# Altium footprint library myPcbLib.PcbLib: 124 footprints (part 3 of 8)
Each footprint in its own frame and in the unit in brackets; x right, y up, seen from the top. Pads: shape width x height; smd on the part's side, far side on the other; paste and mask are expansions set on the pad; w line width, h text height; cw(c..) or ccw(c..) is an arc to the next point about the centre after c.
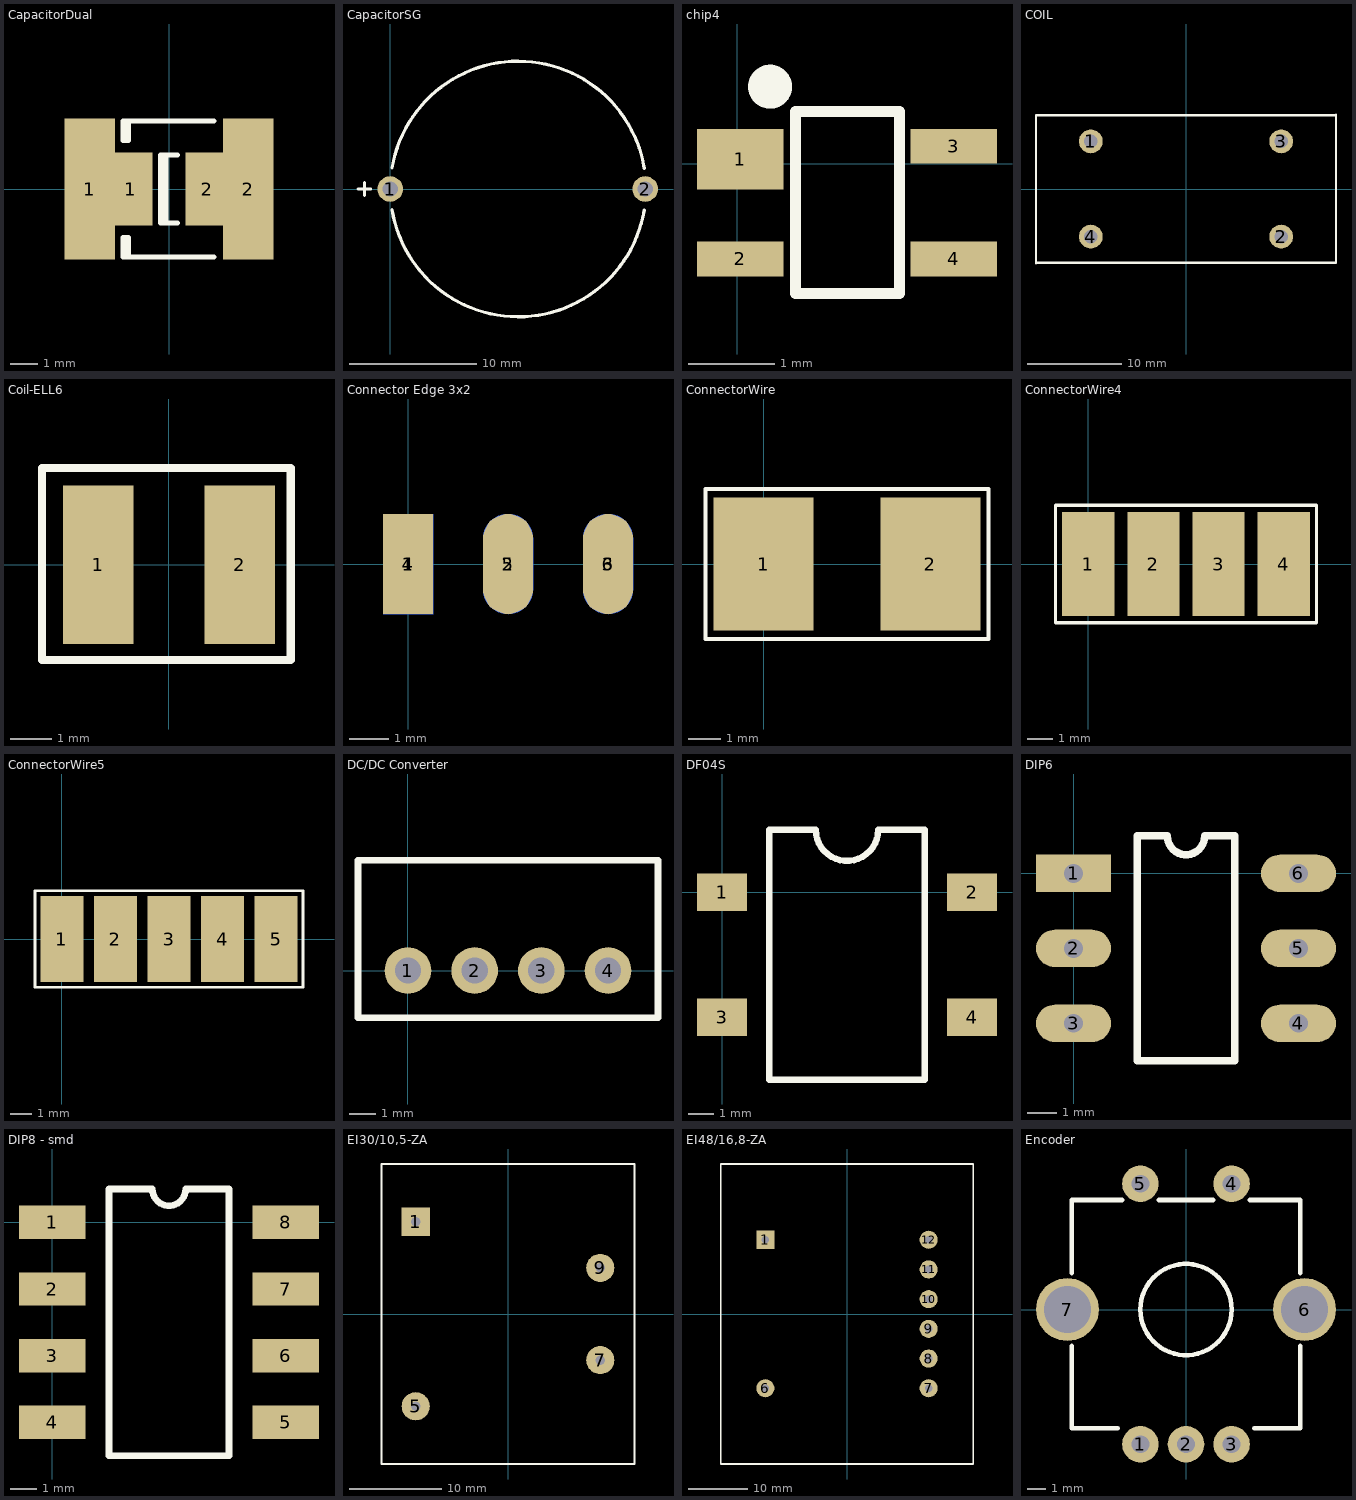
[diagram p2: the footprints below, top view; thin cyan lines are the x and y axes]

## CapacitorDual [mm] "Chip Capacitor;"
height 1.1
pads (4):
  rect 1.85x5.2 smd: 1(-2.913,0) 2(2.913,0)
  rect 1.6x2.7 smd: 1(-1.4,0) 2(1.4,0)
Top Overlay:
  lines w0.2: -1.689,-1.8 -1.689,-2.5 1.643,-2.5 ; -1.689,1.8 -1.689,2.5 1.643,2.5 ; -1.498,-2.5 -1.498,-1.8 ; -1.498,1.8 -1.498,2.5 ; -0.11,-1.25 -0.11,1.25 ; 0.3,-1.25 -0.3,-1.25 -0.3,1.25 0.3,1.25
  lines w0.203: -1.689,-1.8 -1.498,-1.8 ; -1.689,1.8 -1.498,1.8

## CapacitorSG [mm]
pads (2):
  round 2 hole 1.2: 1(0,0) 2(20,0)
Top Overlay:
  lines w0.2: -2.526,0 -1.51,0 ; -2.018,-0.508 -2.018,0.508
  lines w0.254: 0.139,-1.6 ccw(c10.033,0) 19.916,-1.665 ; 0.15,1.665 cw(c10.033,0) 19.927,1.6
3D body: height 6, standoff 0, extent 0.127,-10.033 20.048,9.928

## chip4 [mm]
pads (4):
  rect 1x0.7 smd: 1(0.037,0.05)
  rect 1x0.4 smd: 2(0.037,-1.1) 3(2.501,0.2) 4(2.501,-1.1)
Top Overlay:
  circle w0.254: c0.381,0.889 r0.127
  lines w0.127: 0.672,0.602 1.866,0.602 ; 0.677,0.6 0.677,-1.5 1.877,-1.5 1.877,0.6

## COIL [mm] "coil"
pads (4):
  round 2.54 hole 1.45: 1(-10.16,5.08) 2(10.16,-5.08) 3(10.16,5.08) 4(-10.16,-5.08)
Top Overlay:
  lines w0.254: -16.002,-7.925 -16.002,0 ; -16.002,-0.051 -16.002,7.874 ; -15.875,-7.874 0,-7.874 15.875,-7.874 ; -15.875,7.874 0,7.874 15.875,7.874 ; 16.002,-7.874 16.002,0.051 ; 16.002,0 16.002,7.925

## Coil-ELL6 [mm]
pads (2):
  rect 1.7x3.8 smd: 1(-1.7,0) 2(1.7,0)
Top Overlay:
  lines w0.2: -3.048,2.286 -3.048,-2.286 2.921,-2.286 2.921,2.286 ; -3.048,2.326 2.921,2.326

## Connector Edge 3x2 [mm]
pads (6):
  rect 1.27x2.54 smd: 1(0,0)
  oval 1.27x2.54 smd: 2(2.54,0) 3(5.08,0)
  rect 1.27x2.54 smd far side: 4(0,0)
  oval 1.27x2.54 smd far side: 5(2.54,0) 6(5.08,0)

## ConnectorWire [mil]
pads (2):
  rect 120x160 smd: 1(0,0) 2(200,0)
Top Overlay:
  lines w5: -70,-90 270,-90 270,90 -70,90 -70,-90

## ConnectorWire4 [mil]
pads (4):
  rect 80x160 smd: 1(0,0) 2(100,0) 3(200,0) 4(300,0)
Top Overlay:
  lines w5: -50,-90 -50,90 350,90 350,-90 -50,-90

## ConnectorWire5 [mil]
pads (5):
  rect 80x160 smd: 1(0,0) 2(100,0) 3(200,0) 4(300,0) 5(400,0)
Top Overlay:
  lines w5: -50,-90 -50,90 450,90 450,-90 -50,-90

## DC/DC Converter [mil] "CONVERTER, DC/DC"
height 393.7
pads (4):
  round 70 hole 39.37: 1(0,0) 2(100,0) 3(200,0) 4(300,0)
Top Overlay:
  lines w10: 374.8,-70.87 -74.8,-70.87 -74.8,165.35 374.8,165.35 374.8,-70

## DF04S [mm]
pads (4):
  rect 2x1.5 smd: 1(0,0) 2(10,0) 3(0,-5) 4(10,-5)
Top Overlay:
  lines w0.254: 1.889,-7.5 8.111,-7.5 8.111,2.5 6.25,2.5 cw(c5,2.5) 3.75,2.5 1.889,2.5 1.889,-7.5

## DIP6 [mm]
pads (6):
  rect 2.54x1.27 hole 0.635: 1(0,0)
  oval 2.54x1.27 hole 0.635: 2(0,-2.54) 3(0,-5.08) 4(7.62,-5.08) 5(7.62,-2.54) 6(7.62,0)
Top Overlay:
  lines w0.254: 2.159,-6.35 2.159,1.27 3.175,1.27 ccw(c3.81,1.27) 4.445,1.27 5.461,1.27 5.461,-6.35 2.159,-6.35

## DIP8 - smd [mm]
pads (8):
  rect 2.54x1.27 smd: 1(0,0) 2(0,-2.54) 3(0,-5.08) 4(0,-7.62) 5(8.89,-7.62) 6(8.89,-5.08) 7(8.89,-2.54) 8(8.89,0)
Top Overlay:
  lines w0.254: 2.159,-8.89 6.731,-8.89 6.731,1.27 5.08,1.27 cw(c4.445,1.27) 3.81,1.27 2.159,1.27 2.159,-8.89

## EI30/10,5-ZA [mm]
pads (4):
  rect 3.048x3.048 hole 1: 1(-10,10)
  round 3.048 hole 1: 5(-10,-10) 7(10,-5) 9(10,5)
Top Overlay:
  lines w0.254: -13.716,-16.256 -13.716,0 -13.716,16.256 13.716,16.256 13.716,-16.256 0,-16.256 -13.716,-16.256

## EI48/16,8-ZA [mm]
pads (8):
  rect 3.048x3.048 hole 1.3: 1(-13.75,12.5)
  round 3.048 hole 1.3: 6(-13.75,-12.5) 7(13.75,-12.5) 8(13.75,-7.5) 9(13.75,-2.5) 10(13.75,2.5) 11(13.75,7.5) 12(13.75,12.5)
Top Overlay:
  lines w0.254: -21.25,-25.25 21.25,-25.25 21.25,25.25 -21.25,25.25 -21.25,-25.25
3D body: height 34.6, standoff 0, extent -21.249,-25.249 21.249,25.249

## Encoder [mm]
pads (7):
  round 2.032 hole 1: 1(-2.54,-7.5) 2(0,-7.5) 3(2.54,-7.5) 4(2.54,7) 5(-2.54,7)
  round 3.5 hole 2.6: 6(6.6,0) 7(-6.6,0)
Top Overlay:
  circle w0.254: c0,0 r2.54
  lines w0.254: -6.35,-2.032 -6.35,-6.604 -3.81,-6.604 ; -6.35,2.032 -6.35,6.096 -3.556,6.096 ; -1.524,6.096 1.524,6.096 ; 3.556,6.096 6.35,6.096 6.35,2.032 ; 3.81,-6.604 6.35,-6.604 6.35,-2.032
3D body: height 36.5, standoff -3.5, extent -7.25,-7.9 7.25,7.4